# Altium footprint library Adams Altium Library.PcbLib: 103 footprints (part 4 of 7)
Each footprint in its own frame and in the unit in brackets; x right, y up, seen from the top. Pads: shape width x height; smd on the part's side, far side on the other; paste and mask are expansions set on the pad; w line width, h text height; cw(c..) or ccw(c..) is an arc to the next point about the centre after c.
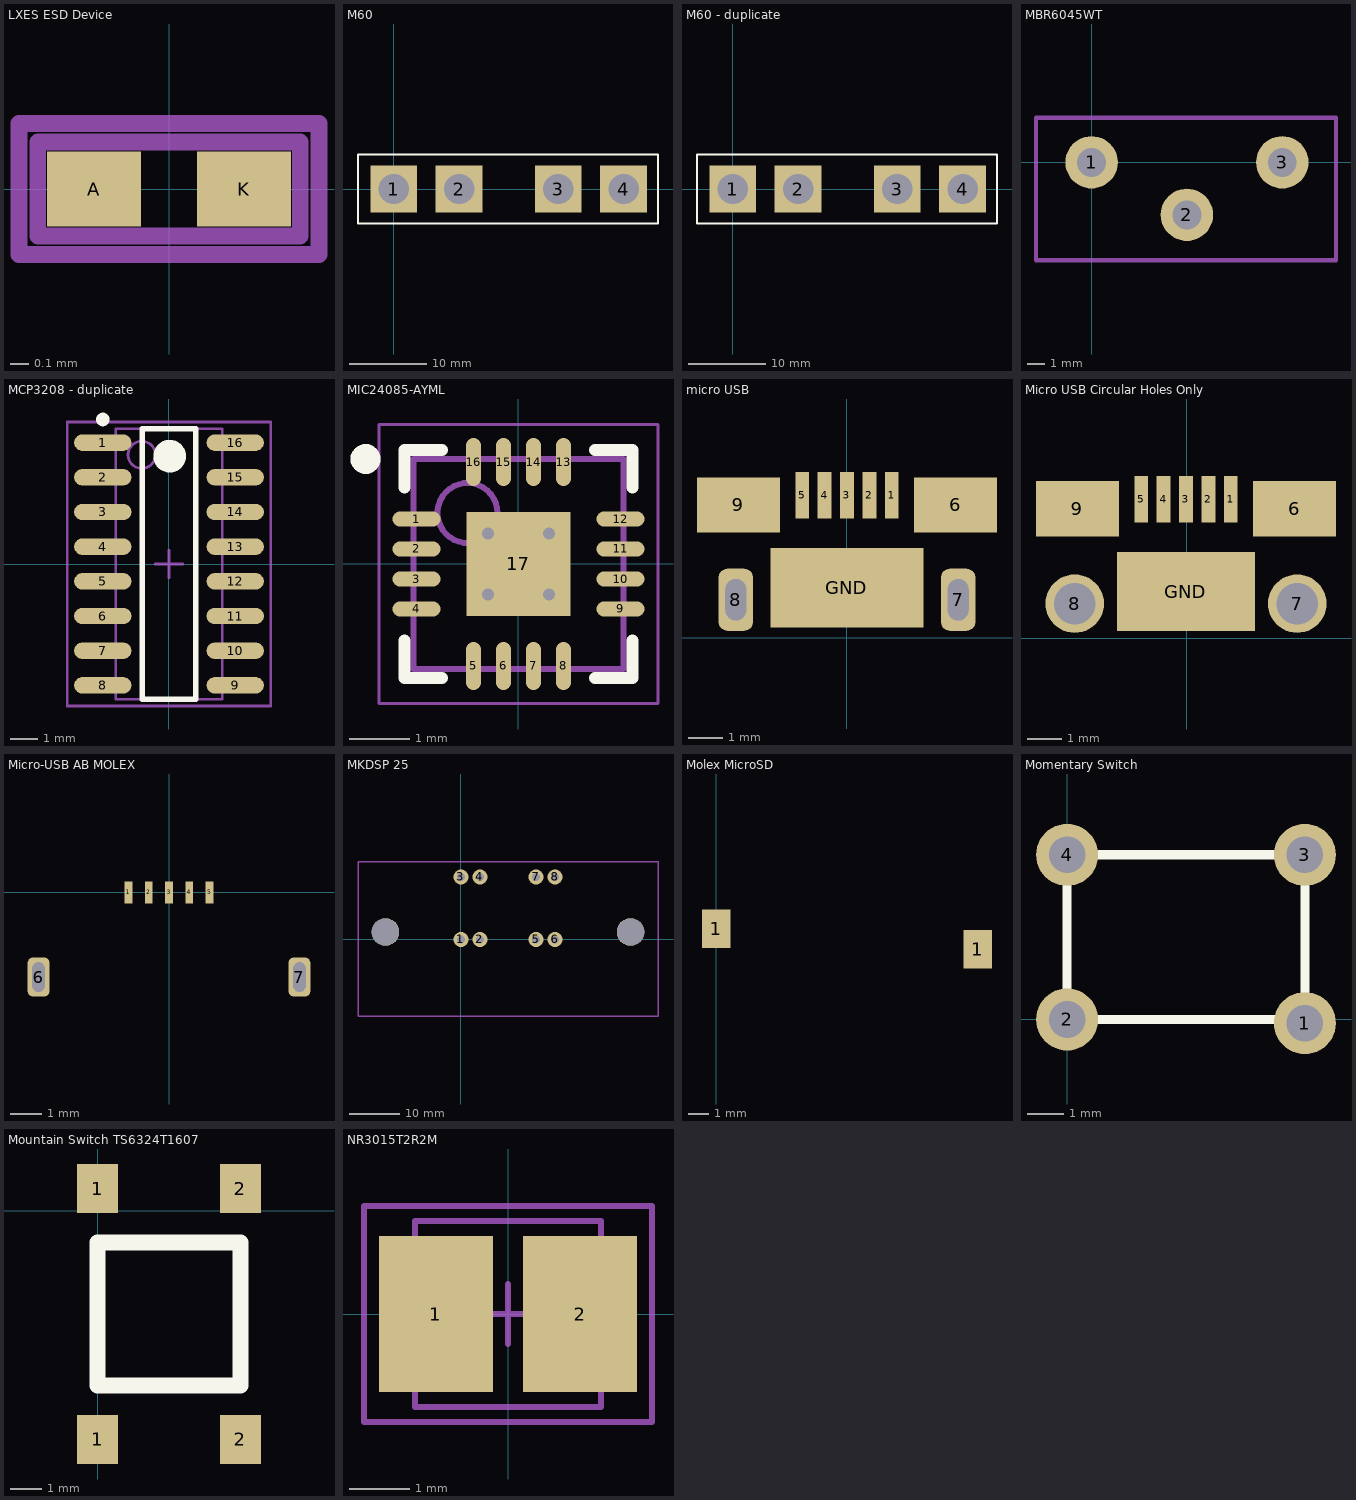
[diagram p3: the footprints below, top view; thin cyan lines are the x and y axes]

## LXES ESD Device [mm]
pads (2):
  rect 0.5x0.4 smd: A(-0.4,0) K(0.4,0)
Mechanical 13:
  lines w0.09: -0.7,-0.25 -0.7,0.25 0.7,0.25 0.7,-0.25 -0.7,-0.25
Mechanical 15:
  lines w0.09: -0.8,-0.35 0.8,-0.35 0.8,0.35 -0.8,0.35 -0.8,0 -0.8,-0.35

## M60 [mm] "Automotive fuse carrier"
pads (4):
  rect 6x6 hole 3.9: 1(0,0) 2(8.4,0) 3(21.1,0) 4(29.5,0)
Top Overlay:
  lines w0.254: -4.572,-4.445 -4.572,4.445 33.909,4.445 33.909,-4.445 -4.572,-4.445

## M60 - duplicate [mm] "Automotive Fuse Socket"
height 15
pads (4):
  rect 6x6 hole 3.9: 1(0,0) 2(8.4,0) 3(21.1,0) 4(29.5,0)
Top Overlay:
  lines w0.254: -4.572,-4.445 33.909,-4.445 33.909,4.445 -4.572,4.445 -4.572,-4.445

## MBR6045WT [mm] "Rectifier Diode"
pads (3):
  round 3 hole 1.65: 1(0,0) 2(5.45,-3) 3(10.9,0)
Mechanical 13:
  lines w0.254: -3.175,-5.588 -3.175,2.54 13.97,2.54 13.97,-5.588 -3.175,-5.588

## MBR6045WTG [mm] "Schottky Diode"

## MCP3208 [mm] "MCP3208 ADC"
height 1.25

## MCP3208 - duplicate [mm] "MCP3208 8 Channel ADC"
height 1.25
pads (16):
  oval 2.1x0.6 smd: 1(-2.425,4.445) 2(-2.425,3.175) 3(-2.425,1.905) 4(-2.425,0.635) 5(-2.425,-0.635) 6(-2.425,-1.905) 7(-2.425,-3.175) 8(-2.425,-4.445) 9(2.425,-4.445) 10(2.425,-3.175) 11(2.425,-1.905) 12(2.425,-0.635) 13(2.425,0.635) 14(2.425,1.905) 15(2.425,3.175) 16(2.425,4.445)
Top Overlay:
  circle w0.6: c0.025,3.95 r0.3
  circle w0.25: c-2.425,5.295 r0.125
  lines w0.2: -0.975,-4.95 0.975,-4.95 0.975,4.95 -0.975,4.95 -0.975,-4.95
Mechanical 13:
  circle w0.1: c-1,4 r0.5
  lines w0.1: -1.95,-4.95 1.95,-4.95 1.95,4.95 -1.95,4.95 -1.95,-4.95
Mechanical 15:
  lines w0.1: -0.5,0 0.5,0 ; 0,-0.5 0,0.5 ; -3.725,-5.2 3.725,-5.2 3.725,5.2 -3.725,5.2 -3.725,-5.2
3D body: height 1.25, standoff 0.25, extent -1.95,-4.95 1.95,4.95

## MIC24085-AYML [mm] "QFN, 16-Leads, Body 3.25x3.25mm, Pitch 0.50mm, Thermal Pad 1.73x1.73mm, IPC Medium Density"
height 0.85
pads (17):
  oval 0.8x0.25 smd: 1(-1.7,0.75) 2(-1.7,0.25) 3(-1.7,-0.25) 4(-1.7,-0.75) 9(1.7,-0.75) 10(1.7,-0.25) 11(1.7,0.25) 12(1.7,0.75)
  oval 0.25x0.8 smd: 5(-0.75,-1.7) 6(-0.25,-1.7) 7(0.25,-1.7) 8(0.75,-1.7) 13(0.75,1.7) 14(0.25,1.7) 15(-0.25,1.7) 16(-0.75,1.7)
  rect 1.73x1.73 smd: 17(0,0)
via -0.508,0.508 diameter 0.5 hole 0.2
via 0.508,0.508 diameter 0.5 hole 0.2
via -0.508,-0.508 diameter 0.5 hole 0.2
via 0.508,-0.508 diameter 0.5 hole 0.2
Top Overlay:
  circle w0.25: c-2.55,1.75 r0.125
  lines w0.2: -1.9,-1.275 -1.9,-1.9 -1.275,-1.9 ; -1.9,1.275 -1.9,1.9 -1.275,1.9 ; 1.275,-1.9 1.9,-1.9 1.9,-1.275 ; 1.275,1.9 1.9,1.9 1.9,1.275
Mechanical 13:
  circle w0.1: c-0.85,0.85 r0.5
  lines w0.1: -1.75,-1.75 -1.75,1.75 1.75,1.75 1.75,-1.75 -1.75,-1.75
Mechanical 15:
  lines w0.05: -2.325,-2.325 -2.325,2.325 2.325,2.325 2.325,-2.325 -2.325,-2.325
  lines w0.1: -0.5,0 0.5,0 ; 0,-0.5 0,0.5
3D body: height 0.85, standoff 0.05, extent -1.75,-1.75 1.75,1.75

## micro USB [mm]
pads (10):
  rect 0.4x1.35 smd: 1(1.3,4.125) 2(0.65,4.125) 3(0,4.125) 4(-0.65,4.125) 5(-1.3,4.125)
  rect 2.4x1.6 smd: 6(3.15,3.85) 9(-3.15,3.85)
  rrect50% 1x1.8 hole 0.6 slot 1.2 at 90 deg: 7(3.225,1.1) 8(-3.225,1.1)
  rect 4.45x2.3 smd: GND(0,1.45)

## Micro USB Circular Holes Only [mm]
pads (10):
  rect 0.4x1.35 smd: 1(1.275,4.025) 2(0.625,4.025) 3(-0.025,4.025) 4(-0.675,4.025) 5(-1.325,4.025)
  rect 2.4x1.6 smd: 6(3.125,3.75) 9(-3.175,3.75)
  round 1.7 hole 1.2: 7(3.2,1) 8(-3.25,1)
  rect 4x2.3 smd: GND(-0.025,1.35)
3D body: height 2.73, standoff -0.58, extent -4.1,-1.637 4.1,3.793

## Micro-USB AB MOLEX [mm]
pads (7):
  rect 0.25x0.7 all layers, no hole: 1(-1.3,0) 2(-0.65,0) 3(0,0) 4(0.65,0) 5(1.3,0)
  rrect50% 0.7x1.25 hole 0.4 slot 0.95 at 90 deg: 6(-4.175,-2.71) 7(4.175,-2.71)
3D body: height 3.03, standoff -2.78, extent -4.325,-2.875 4.325,0.5

## MKDSP 25 [mm] "MKDSP 25 High Current Screw Terminal"
height 39
pads (10):
  round 3 hole 1.6: 1(0,0) 2(3.8,0) 3(0,12.5) 4(3.8,12.5) 5(15,0) 6(18.8,0) 7(15,12.5) 8(18.8,12.5)
  round 5.5 hole 5.5: ""(-15.1,1.5) ""(33.9,1.5)
Mechanical 1:
  lines w0.254: -20.6,-15.367 -20.6,15.6 39.4,15.6 39.4,-15.4 29.083,-15.4 -10.414,-15.4 -20.567,-15.4

## Molex MicroSD [mm]
pads (2):
  rect 1.4x1.9 all layers, no hole: 1(0,14.55) 1(12.9,13.55)

## Momentary Switch [mm] "Momentary switch for reset"
pads (4):
  round 1.7 hole 1: 1(6.5,-0.1) 2(0,0) 3(6.5,4.5) 4(0,4.5)
Top Overlay:
  lines w0.254: 0,0 0,4.5 6.5,4.5 6.5,0.1 6.4,0 0,0

## Mountain Switch TS6324T1607 [mm]
pads (4):
  rect 1.3x1.55 smd: 1(0,-7.2) 1(0,0.7) 2(4.5,-7.2) 2(4.5,0.7)
Top Overlay:
  lines w0.508: 0,-5.5 4.5,-5.5 4.5,-1 0,-1 0,-5.5

## NR3015T2R2M [mm] "Precision Wire Wound Inductor, 2-Leads, Body 3.0x3.0mm, IPC Medium Density"
height 1.5
pads (2):
  rect 1.9x2.6 smd: 1(-1.2,0) 2(1.2,0)
Mechanical 13:
  lines w0.1: -1.55,-1.55 -1.55,1.55 1.55,1.55 1.55,-1.55 -1.55,-1.55
Mechanical 15:
  lines w0.1: -0.5,0 0.5,0 ; 0,-0.5 0,0.5 ; -2.4,-1.8 -2.4,1.8 2.4,1.8 2.4,-1.8 -2.4,-1.8
3D body: height 1.5, standoff 0, extent -1.55,-1.55 1.55,1.55